# EAGLE library part BLUES_WIRELESS_SWAN_1.27_ALL_SMD (library EAGLE-SWAN-C)
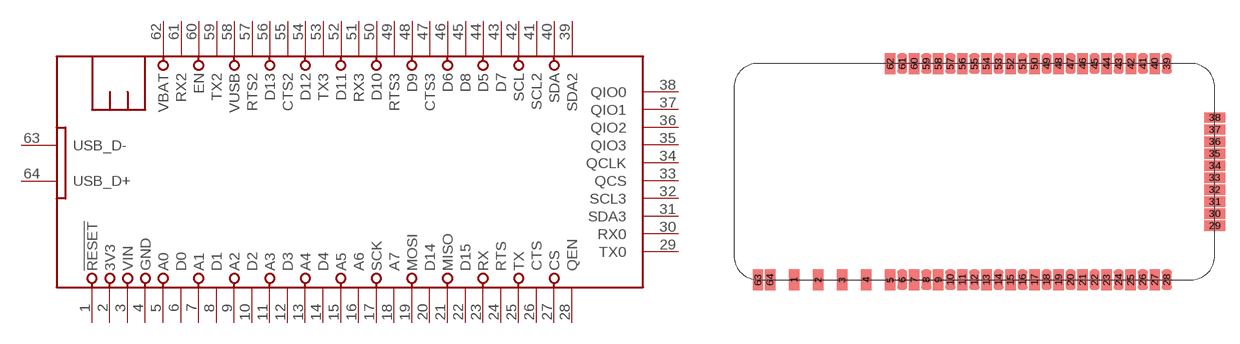
[diagram p1: symbol with the pads of BLUES_WIRELESS_SWAN_1.27MM_ALL_SMD; footprint BLUES_WIRELESS_SWAN_1.27MM_ALL_SMD]

Designator prefix MOD

## BLUES_WIRELESS_SWAN_1.27_ALL_SMD  [BLUES_WIRELESS_SWAN_1.27MM_ALL_SMD]
1  !RESET  in
2  3V3  sup
3  VIN  pwr
4  GND  pwr
5  A0
6  D0
7  A1
8  D1
9  A2
10  D2
11  A3
12  D3
13  A4
14  D4
15  A5
16  A6
17  SCK
18  A7
19  MOSI
20  D14
21  MISO
22  D15
23  RX
24  RTS
25  TX
26  CTS
27  CS  pas
28  QEN  pas
29  TX0
30  RX0
31  SDA3
32  SCL3
33  QCS
34  QCLK
35  QIO3
36  QIO2
37  QIO1
38  QIO0
39  SDA2
40  SDA
41  SCL2
42  SCL
43  D7
44  D5
45  D8
46  D6
47  CTS3
48  D9
49  RTS3
50  D10
51  RX3
52  D11
53  TX3
54  D12
55  CTS2
56  D13
57  RTS2
58  VUSB  sup
59  TX2  pas
60  EN  pas
61  RX2  sup
62  VBAT  sup
63  USB_D-
64  USB_D+

## Footprint BLUES_WIRELESS_SWAN_1.27MM_ALL_SMD (pad centres in mm)
smd 1.1 x 2.2: 1 6.35,0; 2 8.89,0; 3 11.43,0; 4 13.97,0; 5 16.51,0; 6 17.78,0; 7 19.05,0; 8 20.32,0; 9 21.59,0; 10 22.86,0; 11 24.13,0; 12 25.4,0; 13 26.67,0; 14 27.94,0; 15 29.21,0; 16 30.48,0; 17 31.75,0; 18 33.02,0; 19 34.29,0; 20 35.56,0; 21 36.83,0; 22 38.1,0; 23 39.37,0; 24 40.64,0; 25 41.91,0; 26 43.18,0; 27 44.45,0; 28 45.72,0; 39 45.72,22.86; 40 44.45,22.86; 41 43.2,22.86; 42 41.93,22.86; 43 40.64,22.86; 44 39.37,22.86; 45 38.1,22.86; 46 36.83,22.86; 47 35.56,22.86; 48 34.29,22.86; 49 33.02,22.86; 50 31.75,22.86; 51 30.48,22.86; 52 29.21,22.86; 53 27.94,22.86; 54 26.67,22.86; 55 25.4,22.86; 56 24.13,22.86; 57 22.86,22.86; 58 21.59,22.86; 59 20.32,22.86; 60 19.05,22.86; 61 17.78,22.86; 62 16.51,22.86; 63 2.54,0; 64 3.81,0
smd 2.2 x 1.1: 29 50.8,5.715; 30 50.8,6.985; 31 50.8,8.255; 32 50.8,9.525; 33 50.8,10.795; 34 50.8,12.065; 35 50.8,13.335; 36 50.8,14.605; 37 50.8,15.875; 38 50.8,17.145